# Altium footprint library Bagryanets-PcbLib.PcbLib: 38 footprints (part 3 of 3)
Each footprint in its own frame and in the unit in brackets; x right, y up, seen from the top. Pads: shape width x height; smd on the part's side, far side on the other; paste and mask are expansions set on the pad; w line width, h text height; cw(c..) or ccw(c..) is an arc to the next point about the centre after c.
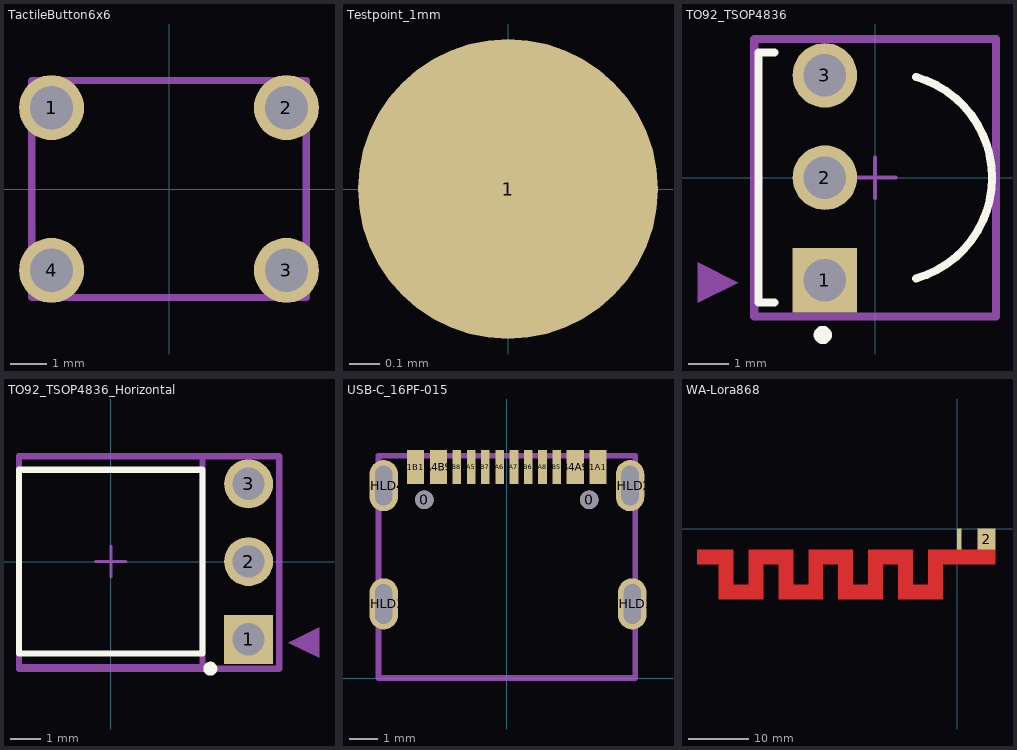
[diagram p2: the footprints below, top view; thin cyan lines are the x and y axes]

## TactileButton6x6 [mm]
pads (4):
  round 1.8 hole 1.2: 1(-3.25,2.25) 2(3.25,2.25) 3(3.25,-2.25) 4(-3.25,-2.25)
Top Assembly:
  lines w0.2: -3.8,-3 -3.8,3 3.8,3 3.8,-3 -3.8,-3
3D body "SW_Tactile6x6.STEP": height 4.95, standoff -3.38, extent -3.846,-3.004 3.846,3.004

## Testpoint_1mm [mm]
pads (1):
  round 1 smd: 1(0,0)
Top Overlay:
  text ".Comment" at 1.3,-0.2 h1

## TO92_TSOP4836 [mm]
pads (3):
  rect 1.6x1.6 hole 1.05 paste-2539.97 mask+0: 1(-1.25,-2.54)
  round 1.6 hole 1.05 paste-2539.97 mask+0: 2(-1.25,0) 3(-1.25,2.54)
Top Overlay:
  circle w0.254: c-1.3,-3.9 r0.1
  lines w0.2: -2.5,-3.1 -2.9,-3.1 -2.9,3.1 -2.5,3.1 ; 1.012,-2.5 ccw(c0.298,0) 1.012,2.5
Mechanical 2:
  lines w0.2: -3,-3.44 -3,3.44 3,3.44 3,-3.44 -3,-3.44
Top Assembly:
  region: -3.4,-2.6 -4.4,-2.1 -4.4,-3.1
  lines w0.2: -3,-3.44 -3,3.44 3,3.44 3,-3.44 -3,-3.44
Top Component Center:
  lines w0.1: -0.5,0 0.5,0 ; 0,-0.5 0,0.5
3D body "IC_Vishay_Semiconductor_TSOP4836_eec.STEP": height 0.25, standoff 0, extent -3,-3.44 3,3.44

## TO92_TSOP4836_Horizontal [mm]
pads (3):
  rect 1.6x1.6 hole 1.05 paste-2539.97 mask+0: 1(4.5,-2.54)
  round 1.6 hole 1.05 paste-2539.97 mask+0: 2(4.5,0) 3(4.5,2.54)
Top Overlay:
  circle w0.254: c3.25,-3.5 r0.1
  lines w0.2: -3,-3 3,-3 3,3 -3,3 -3,-3
Mechanical 2:
  lines w0.2: -3,-3.44 -3,3.44 3,3.44 3,-3.44 -3,-3.44
Top Assembly:
  region: 5.8,-2.65 6.8,-3.15 6.8,-2.15
  lines w0.2: -3,-3.5 -3,3.44 5.5,3.44 5.5,-3.5 -3,-3.5
Top Component Center:
  lines w0.1: -0.5,0 0.5,0 ; 0,-0.5 0,0.5
3D body "User Library-TO-92-katowy.step": height 3.5, standoff -2, extent -2.75,-2.846 4.753,2.846

## USB-C_16PF-015 [mm]
pads (18):
  round 0.65 hole 0.65 unplated: 0(-2.89,6.25) 0(2.89,6.25)
  rect 0.6x1.2 smd: A1B12(-3.2,7.4) A4B9(-2.4,7.4) B1A12(3.2,7.4) B4A9(2.4,7.4)
  rect 0.3x1.2 smd: A5(-1.25,7.4) A6(-0.25,7.4) A7(0.25,7.4) A8(1.25,7.4) B5(1.75,7.4) B6(0.75,7.4) B7(-0.75,7.4) B8(-1.75,7.4)
  oval 1x1.8 hole 0.6 slot 1.4 at 90 deg: SHLD1(4.4,2.6) SHLD2(4.32,6.75) SHLD3(-4.32,2.6) SHLD4(-4.32,6.75)
Top Assembly:
  lines w0.2: -4.5,0 -4.5,7.8 4.5,7.8 4.5,0 -4.5,0
3D body "XS_USB-C_16Pin.step": height 3.31, standoff -0.95, extent -4.47,-0.025 4.47,7.755

## WA-Lora868 [mm]
pads (2):
  rect 0.7x3.5 smd paste-2539.97 mask+0.102: 1(0.35,-1.75)
  rect 3x3.5 smd paste-2539.97 mask+0.102: 2(4.9,-1.75)
Top Layer:
  rectangle: -4.9,-6 6.4,-3.5
  rectangle: -14.9,-6 -7.4,-3.5
  rectangle: -9.9,-11.8 -2.4,-9.3
  rectangle: -4.9,-11.8 -2.4,-3.5
  rectangle: -9.9,-11.8 -7.4,-3.6
  rectangle: -19.9,-11.8 -12.4,-9.3
  rectangle: -14.9,-11.8 -12.4,-3.5
  rectangle: -19.9,-11.8 -17.4,-3.5
  rectangle: -29.9,-11.8 -22.4,-9.3
  rectangle: -24.9,-11.8 -22.4,-3.5
  rectangle: -29.9,-11.8 -27.4,-3.5
  rectangle: -39.9,-11.8 -32.4,-9.3
  rectangle: -34.9,-11.8 -32.4,-3.5
  rectangle: -43.5,-6 -37.4,-3.5
  rectangle: -34.9,-6 -27.4,-3.5
  rectangle: -24.9,-6 -17.4,-3.5
  rectangle: -39.9,-11.8 -37.4,-3.5
  rectangle: 0,-3.6 0.7,-3.2
  rectangle: 3.4,-6 6.4,-3.3